# EAGLE library part BD125-10-A-0305-0580-L-B (library BD125-10-A-0305-0580-L-B)
Board to Board & Mezzanine Connectors 10 Contact 1.27mm keyed Pin hdr SMT Vert GF Source: Datasheet <https://gct.co/connector/bd125>
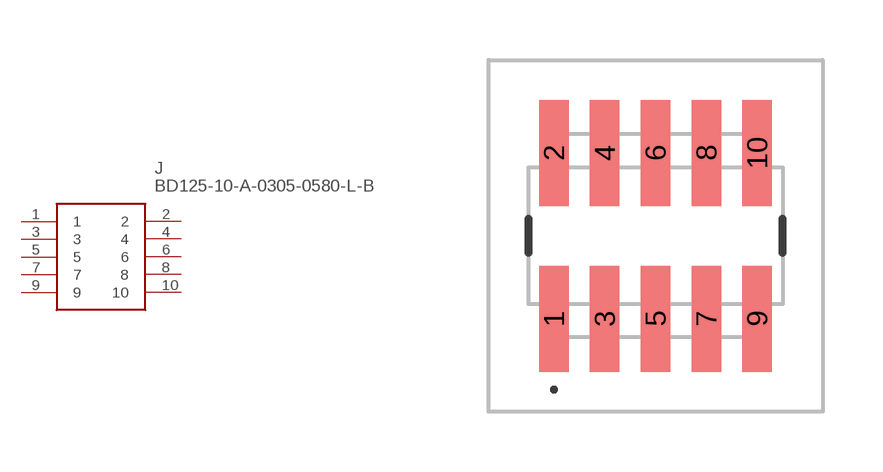
[diagram p0: symbol with the pads of BD12510A03050580LB; footprint BD12510A03050580LB]

Designator prefix J

## BD125-10-A-0305-0580-L-B (Description: Board to Board & Mezzanine Connectors 10 Contact 1.27mm keyed Pin hdr SMT Vert GF; Height: 6.37mm; Manufacturer_Name: GCT (GLOBAL CONNECTOR TECHNOLOGY); Manufacturer_Part_Number: BD125-10-A-0305-0580-L-B; Mouser_Part_Number: 640-BD12510A305580LB; Mouser_Price-Stock: https://www.mouser.co.uk/ProductDetail/GCT/BD125-10-A-0305-0580-L-B?qs=amGC7iS6iy%252BPUE%252B5wV8wFA%3D%3D)  [BD12510A03050580LB]
1  1
2  2
3  3
4  4
5  5
6  6
7  7
8  8
9  9
10  10

## Footprint BD12510A03050580LB (pad centres in mm)
BD125-10-A-0305-0580-L-B-1
smd 0.74 x 2.65: 1 -2.54,-2.075; 2 -2.54,2.075; 3 -1.27,-2.075; 4 -1.27,2.075; 5 0,-2.075; 6 0,2.075; 7 1.27,-2.075; 8 1.27,2.075; 9 2.54,-2.075; 10 2.54,2.075